# EAGLE library part LTC3114 (library U-Linear-LTC3114-buck-boost-sps)
Synchronous Buck Boost Converter Vin = (40V, 2.2V), Iout = 1A, MPN: LTC3114IFE-1#PBF, Pkg: TSSOP-16, DPN: LTC3114IFE-1#PBF-ND
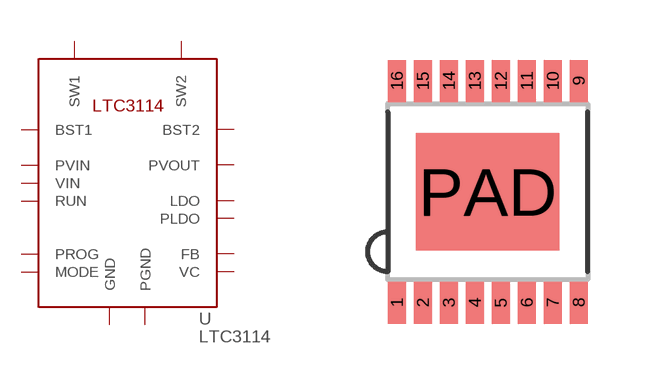
[diagram p0: symbol with the pads of 16-LEAD-PLASTIC-TSSOP-FE; footprint 16-LEAD-PLASTIC-TSSOP-FE]

Designator prefix U

## LTC3114FE  [16-LEAD-PLASTIC-TSSOP-FE]
1  PGND  pwr
2  SW2  pas
3  PVOUT  pwr
4  RUN  pas
5  PROG  pas
6  VC  pas
7  FB  pas
8  GND  pwr
9  LDO  pwr
10  VIN  pwr
11  PLDO  pwr
12  BST2  pas
13  BST1  pas
14  PVIN  pwr
15  SW1  pas
16  MODE  in
PAD  PGND  pwr

## Footprint 16-LEAD-PLASTIC-TSSOP-FE (pad centres in mm)
smd 0.45 x 1.05: 1 -2.275,-2.775; 2 -1.625,-2.775; 3 -0.975,-2.775; 4 -0.325,-2.775; 5 0.325,-2.775; 6 0.975,-2.775; 7 1.625,-2.775; 8 2.275,-2.775; 9 2.275,2.775; 10 1.625,2.775; 11 0.975,2.775; 12 0.325,2.775; 13 -0.325,2.775; 14 -0.975,2.775; 15 -1.625,2.775; 16 -2.275,2.775
smd 3.58 x 2.94: PAD 0,0